# Altium footprint library Capacitors.PcbLib: 16 footprints
Each footprint in its own frame and in the unit in brackets; x right, y up, seen from the top. Pads: shape width x height; smd on the part's side, far side on the other; paste and mask are expansions set on the pad; w line width, h text height; cw(c..) or ccw(c..) is an arc to the next point about the centre after c.
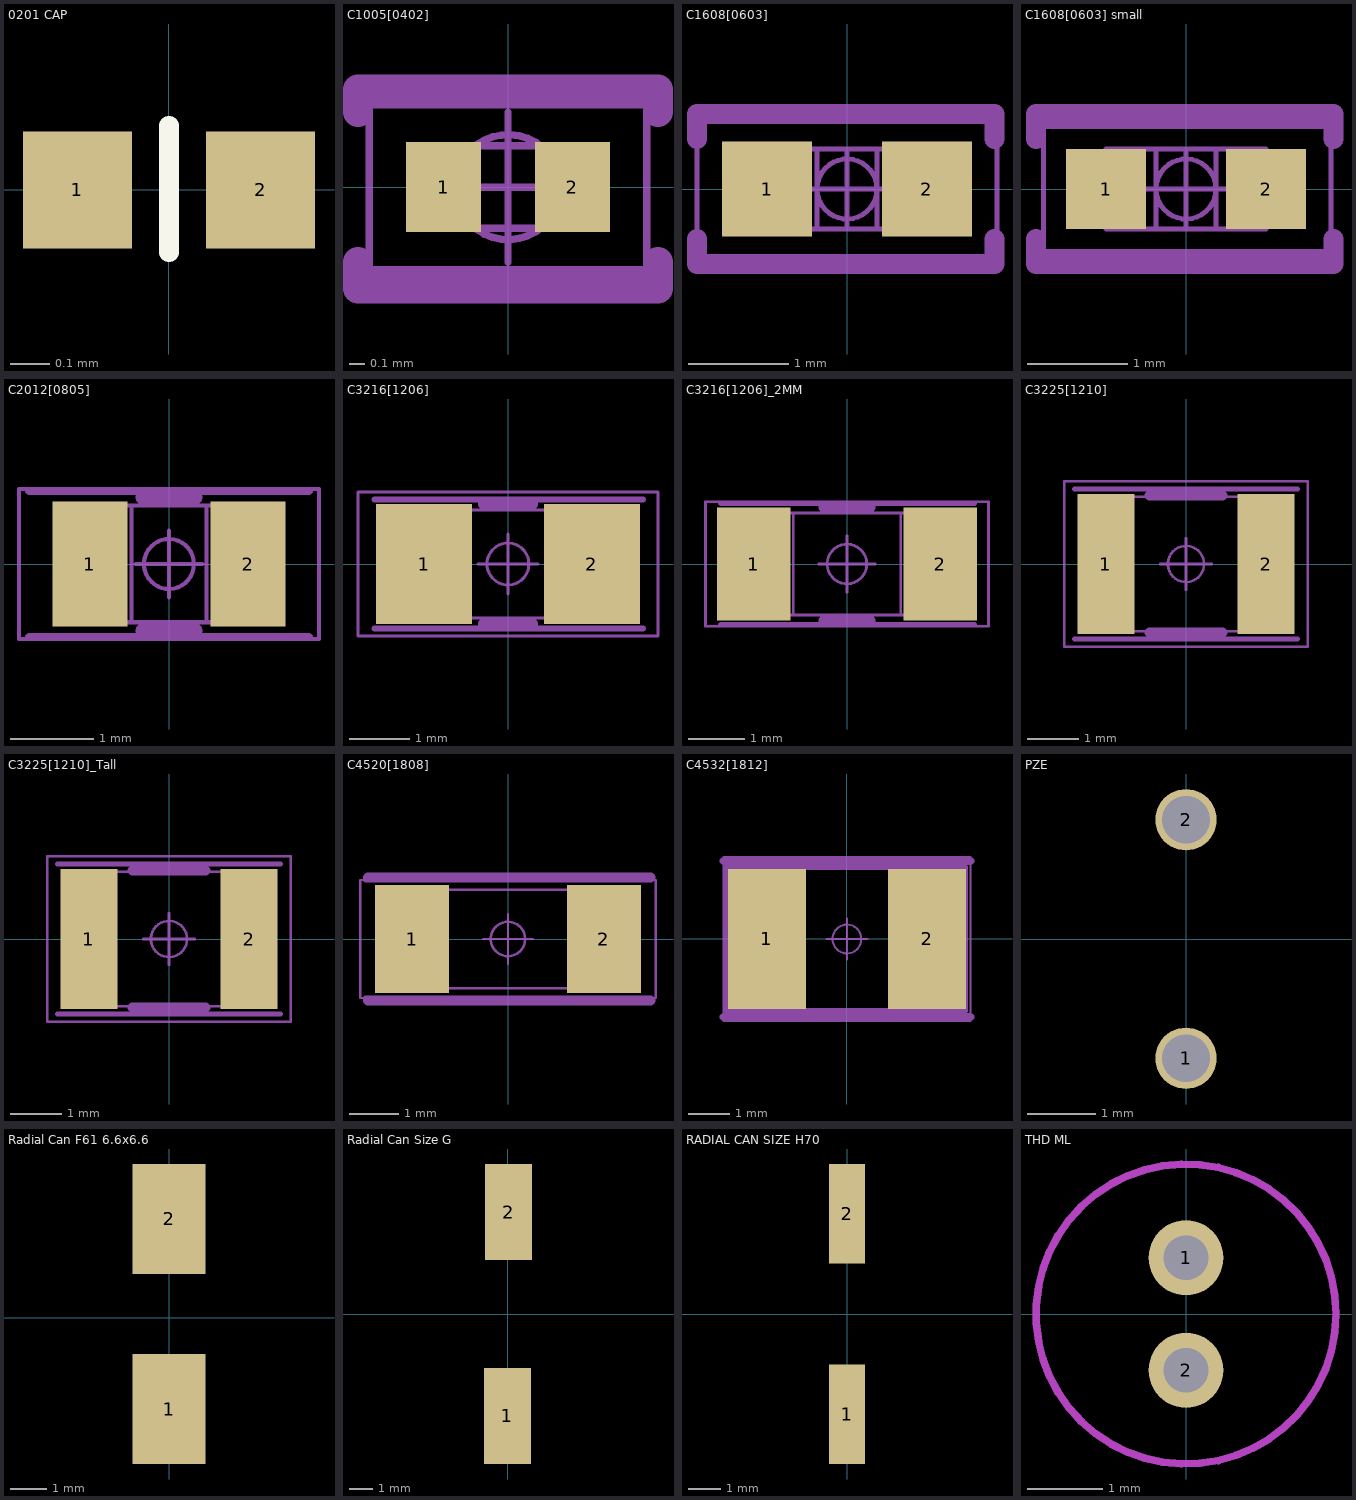
[diagram p0: the footprints below, top view; thin cyan lines are the x and y axes]

## 0201 CAP [mm]
pads (4):
  rect 0.28x0.3 smd paste-1 mask+0.03: 1(-0.235,0) 2(0.235,0)
  round 0.254 on Top Paste mask+0.03: ""(-0.235,0) ""(0.235,0)
Top Overlay:
  lines w0.051: 0,-0.16 0,0.165
3D body: height 0.3, standoff 0, extent -0.31,-0.15 0.29,0.15

## C1005[0402] [mm] "Capacitor 1005(0402)"
height 0.6
pads (2):
  rect 0.5x0.6 smd: 1(-0.43,0) 2(0.43,0)
Mechanical 2:
  lines w0.05: -0.275,-0.275 -0.275,0.275 ; 0.275,-0.275 0.275,0.275 ; -0.525,-0.275 -0.525,0 -0.525,0.275 0.525,0.275 0.525,-0.275 -0.525,-0.275
Mechanical 4:
  circle w0.05: c0,0 r0.35
  lines w0.05: -0.5,0 0.5,0 ; 0,-0.5 0,0.5 ; -0.925,-0.55 -0.925,0.55 0.925,0.55 0.925,-0.55 -0.925,-0.55
Mechanical 7:
  lines w0.1: -0.925,-0.625 0.925,-0.625 ; -0.925,0.6 0.925,0.6
  text ".Designator" at -1.325,-0.475 h1.5
Mechanical 13:
  lines w0.2: -1,-0.5 -1,-0.675 1,-0.675 1,-0.5 ; -1,0.5 -1,0.65 1,0.65 1,0.5
3D body "C1005(0402).STEP": height 0.55, standoff 0, extent -0.5,-0.3 0.5,0.3

## C1608[0603] [mm] "3DModel=0805.ogl"
pads (2):
  rect 0.9x0.95 smd: 1(-0.8,0) 2(0.8,0)
Mechanical 2:
  lines w0.05: -0.3,-0.4 -0.3,0.4 ; 0.3,-0.4 0.3,0.4 ; -0.8,-0.4 0.8,-0.4 0.8,0.4 -0.8,0.4 -0.8,0 -0.8,-0.4
Mechanical 4:
  circle w0.05: c0,0 r0.3
  lines w0.05: -0.4,0 0.4,0 ; 0,-0.4 0,0.4 ; -1.5,-0.75 1.5,-0.75 1.5,0.75 -1.5,0.75 -1.5,-0.75
Mechanical 7:
  lines w0.1: -1.5,-0.7 1.5,-0.7 ; -1.5,0.7 1.5,0.7
  text ".Designator" at -1.65,-0.575 h1.8
Mechanical 13:
  lines w0.2: -1.5,-0.5 -1.5,-0.75 1.475,-0.75 1.475,-0.5 ; -1.5,0.5 -1.5,0.75 1.475,0.75 1.475,0.5
3D body "C1608[0603].STEP": height 0.5, standoff 0, extent -0.8,-0.4 0.8,0.4

## C1608[0603] small [mm] "3DModel=0805.ogl"
pads (2):
  rect 0.8x0.8 smd: 1(-0.8,0) 2(0.8,0)
Mechanical 2:
  lines w0.05: -0.3,-0.4 -0.3,0.4 ; 0.3,-0.4 0.3,0.4 ; -0.8,-0.4 0.8,-0.4 0.8,0.4 -0.8,0.4 -0.8,0 -0.8,-0.4
Mechanical 4:
  circle w0.05: c0,0 r0.3
  lines w0.05: -0.4,0 0.4,0 ; 0,-0.4 0,0.4 ; -1.425,-0.625 1.45,-0.625 1.45,0.625 -1.425,0.625 -1.425,-0.625
Mechanical 7:
  lines w0.1: -1.5,-0.7 1.5,-0.7 ; -1.5,0.7 1.5,0.7
  text ".Designator" at -1.65,-0.575 h1.8
Mechanical 13:
  lines w0.2: -1.5,-0.5 -1.5,-0.75 1.475,-0.75 1.475,-0.5 ; -1.5,0.5 -1.5,0.75 -0.756,0.75 0.731,0.75 1.475,0.75 1.475,0.5
3D body "C1608[0603].STEP": height 0.5, standoff 0, extent -0.8,-0.4 0.8,0.4

## C2012[0805] [mm] "3DModel=0805.ogl"
pads (2):
  rect 0.9x1.5 smd: 1(-0.95,0) 2(0.95,0)
Mechanical 2:
  lines w0.05: -0.45,-0.7 -0.45,0.7 ; 0.45,-0.7 0.45,0.7 ; -1.075,-0.7 -1.075,0.7 1.075,0.7 1.075,-0.7 -1.075,-0.7
Mechanical 4:
  circle w0.05: c0,0 r0.3
  lines w0.05: -0.4,0 0.4,0 ; 0,-0.4 0,0.4 ; -1.8,-0.9 1.8,-0.9 1.8,0.9 -1.8,0.9 -1.8,-0.9
Mechanical 7:
  lines w0.1: -1.675,-0.875 1.675,-0.875 ; -1.675,0.875 1.675,0.875
  text ".Designator" at -1.6,-0.6 h1.8
Mechanical 13:
  lines w0.2: -0.3,-0.8 0.3,-0.8 ; -0.3,0.8 0.3,0.8
3D body "C2012[0805].STEP": height 0.9, standoff 0, extent -1.1,-0.7 1.1,0.7

## C3216[1206] [mm]
pads (2):
  rect 1.6x2 smd: 1(-1.4,0) 2(1.4,0)
Mechanical 2:
  lines w0.05: -0.95,-0.9 -0.95,0.9 ; 0.95,-0.9 0.95,0.9 ; -1.7,-0.9 1.7,-0.9 1.7,0.9 -1.7,0.9 -1.7,-0.9
Mechanical 4:
  circle w0.05: c0,0 r0.35
  lines w0.05: -0.5,0 0.5,0 ; 0,-0.5 0,0.5 ; -2.5,-1.2 2.5,-1.2 2.5,1.2 -2.5,1.2 -2.5,-1.2
Mechanical 7:
  lines w0.1: -2.225,-1.075 2.25,-1.075 ; -2.225,1.075 2.25,1.075
  text ".Designator" at -2.475,-0.7 h2.2
Mechanical 13:
  lines w0.2: -0.4,-1 0.4,-1 ; -0.4,1 0.4,1
3D body "C3216[1206].STEP": height 0.9, standoff 0, extent -1.6,-0.9 1.6,0.9

## C3216[1206]_2MM [mm]
pads (2):
  rrect1% 1.3x2 smd: 1(-1.65,0) 2(1.65,0)
Mechanical 2:
  lines w0.05: -0.95,-0.9 -0.95,0.9 ; 0.95,-0.9 0.95,0.9 ; -1.7,-0.9 -1.7,0.9 1.7,0.9 1.7,-0.9 -1.7,-0.9
Mechanical 4:
  circle w0.05: c0,0 r0.35
  lines w0.05: -0.5,0 0.5,0 ; 0,-0.5 0,0.5 ; -2.5,-1.1 -2.5,1.1 2.5,1.1 2.5,-1.1 -2.5,-1.1
Mechanical 7:
  lines w0.1: -2.225,-1.075 2.25,-1.075 ; -2.225,1.075 2.25,1.075
  text ".Designator" at -2.475,-0.7 h2.2
Mechanical 13:
  lines w0.2: -0.4,-1 0.4,-1 ; -0.4,1 0.4,1
3D body "C3216[1206].STEP": height 0.9, standoff 0, extent -1.6,-0.9 1.6,0.9

## C3225[1210] [mm]
height 1.25
pads (2):
  rect 1.1x2.7 smd: 1(-1.55,0) 2(1.55,0)
Mechanical 2:
  lines w0.05: -1.1,-1.3 -1.1,1.3 ; 1.1,-1.3 1.1,1.3 ; -1.7,-1.3 -1.7,1.3 1.7,1.3 1.7,-1.3 -1.7,-1.3
Mechanical 4:
  circle w0.05: c0,0 r0.35
  lines w0.05: -0.5,0 0.5,0 ; 0,-0.5 0,0.5 ; -2.35,-1.6 -2.35,1.6 2.35,1.6 2.35,-1.6 -2.35,-1.6
Mechanical 7:
  lines w0.1: -2.15,-1.45 2.15,-1.45 ; -2.15,1.45 2.15,1.45
  text ".Designator" at -2.225,-0.675 h2.2
Mechanical 13:
  lines w0.2: -0.7,-1.325 0.7,-1.325 ; -0.7,1.325 0.7,1.325
3D body "C3225[1210].STEP": height 0.9, standoff 0, extent -1.7,-1.3 1.7,1.3

## C3225[1210]_Tall [mm]
height 2.5
pads (2):
  rect 1.1x2.7 smd: 1(-1.55,0) 2(1.55,0)
Mechanical 2:
  lines w0.05: -1.1,-1.3 -1.1,1.3 ; 1.1,-1.3 1.1,1.3 ; -1.7,-1.3 -1.7,1.3 1.7,1.3 1.7,-1.3 -1.7,-1.3
Mechanical 4:
  circle w0.05: c0,0 r0.35
  lines w0.05: -0.5,0 0.5,0 ; 0,-0.5 0,0.5 ; -2.35,-1.6 -2.35,1.6 2.35,1.6 2.35,-1.6 -2.35,-1.6
Mechanical 7:
  lines w0.1: -2.15,-1.45 2.15,-1.45 ; -2.15,1.45 2.15,1.45
  text ".Designator" at -2.225,-0.675 h2.2
Mechanical 13:
  lines w0.2: -0.7,-1.325 0.7,-1.325 ; -0.7,1.325 0.7,1.325
3D body "C3225[1210]_Tall.STEP": height 2.5, standoff 0, extent -1.6,-1.2 1.6,1.3

## C4520[1808] [mm]
pads (2):
  rect 1.5x2.2 smd: 1(-1.95,0) 2(1.95,0)
Mechanical 2:
  lines w0.05: -1.25,-1 -1.25,1 ; 1.25,-1 1.25,1 ; -2.4,-1 2.4,-1 2.4,1 -2.4,1 -2.4,-1
Mechanical 4:
  circle w0.05: c0,0 r0.35
  lines w0.05: -0.5,0 0.5,0 ; 0,-0.5 0,0.5 ; -3,-1.2 3,-1.2 3,1.2 -3,1.2 -3,-1.2
Mechanical 7:
  lines w0.1: -2.9,-1.2 2.9,-1.2 ; -2.9,1.2 2.9,1.2
  text ".Designator" at -2.7,-0.675 h2.2
Mechanical 13:
  lines w0.2: -2.85,-1.25 2.9,-1.25 ; -2.85,1.25 2.9,1.25
3D body "C4520[1808].STEP": height 1.3, standoff 0, extent -2.4,-1 2.4,1

## C4532[1812] [mm]
height 1.35
pads (2):
  rect 1.9x3.4 smd: 1(-1.95,0) 2(1.95,0)
Mechanical 2:
  lines w0.05: -1.2,-1.7 -1.2,1.7 ; 1.2,-1.7 1.2,1.7 ; -2.4,-1.7 2.4,-1.7 2.4,1.7 -2.4,1.7 -2.4,-1.7
Mechanical 4:
  circle w0.05: c0,0 r0.35
  lines w0.05: -0.5,0 0.5,0 ; 0,-0.5 0,0.5 ; -3,-2 3,-2 3,2 -3,2 -3,-2
Mechanical 7:
  lines w0.1: -2.95,-1.75 2.9,-1.75 2.9,1.75 -2.95,1.75 -2.95,-1.75
  text ".Designator" at -2.45,-0.7 h2.2
Mechanical 13:
  lines w0.2: -3,-1.9 3,-1.9 ; -3,1.9 3,1.9
3D body "C4532[1812].STEP": height 1.3, standoff 0, extent -2.375,-1.7 2.425,1.7

## PZE [mm]
pads (2):
  round 0.9 hole 0.7 mask+0.051: 1(0,-1.75) 2(0,1.75)
3D body: height 22, standoff 0, extent -4.025,-4.022 4.025,4.022

## Radial Can F61 6.6x6.6 [mm]
pads (2):
  rect 2x3 smd mask+0.051: 1(0,-2.5) 2(0,2.7)
3D body: height 6, standoff 0, extent -3.25,-3.247 3.25,3.247

## Radial Can Size G [mm]
pads (2):
  rect 2x4.1 smd mask+0.051: 1(-0.025,-4.35) 2(0.025,4.35)
3D body "CAP SMD SVP 10_0x12_6.STEP": height 12.61, standoff 0.01, extent -5.177,-5.95 5.123,5.05

## RADIAL CAN SIZE H70 [mm]
height 7
pads (2):
  rect 1.1x3.05 smd: 1(0,-3.075) 2(0,3.075)
3D body: height 7, standoff 0, extent -4.25,-4.3 4.25,4.3

## THD ML [mm] "0.45mm ID ML-Series"
pads (2):
  round 1 hole 0.6: 1(0,0.75) 2(0,-0.75)
Mechanical 1 keep-out:
  circle w0.1: c0,0 r2